# Altium footprint library NG_Mechanical.PcbLib: 18 footprints (part 2 of 2)
Each footprint in its own frame and in the unit in brackets; x right, y up, seen from the top. Pads: shape width x height; smd on the part's side, far side on the other; paste and mask are expansions set on the pad; w line width, h text height; cw(c..) or ccw(c..) is an arc to the next point about the centre after c.
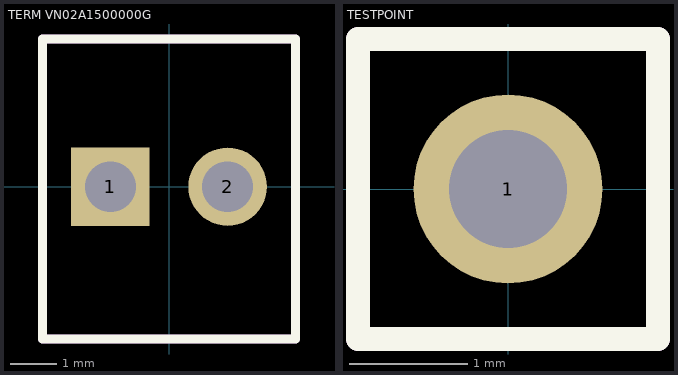
[diagram p1: the footprints below, top view; thin cyan lines are the x and y axes]

## TERM VN02A1500000G [mm] "Terminal block, P=2.54mm"
height 8.5
pads (2):
  rect 1.7x1.7 hole 1.1 mask+0.05: 1(-1.27,0)
  round 1.7 hole 1.1 mask+0.05: 2(1.27,0)
Top Overlay:
  lines w0.2: -2.74,-3.3 -2.74,3.2 2.74,3.2 2.74,-3.3 -2.74,-3.3
Mechanical 4:
  text ".Designator" at -3.999,-0.267 h0.8
Top Component Center:
  lines w0.1: -1.47,0 -1.07,0 ; -1.27,-0.2 -1.27,0.2
Top Component Outline:
  lines w0.2: -2.74,-3.3 -2.74,3.2 2.74,3.2 2.74,-3.3 -2.74,-3.3
Top Assembly:
  lines w0.2: -2.74,-3.3 -2.74,3.2 2.74,3.2 2.74,-3.3 -2.74,-3.3
  text ".Comment" at -3.639,-0.508 h1.02
3D body "VN02A1500000G.stp": height 8.55, standoff -3.45, extent -2.74,-3.3 2.74,3.2

## TESTPOINT [mm] "Generic description"
height 0.8
pads (1):
  round 1.6 hole 1 mask+0.05: 1(0,0)
Top Overlay:
  lines w0.2: -1.27,-1.27 -1.27,1.27 1.27,1.27 1.27,-1.27 -1.27,-1.27
Mechanical 4:
  text ".Designator" at 0.15,0.417 h0.8
Top Component Center:
  lines w0.1: -0.2,0 0.2,0 ; 0,-0.2 0,0.2
Top Component Outline:
  lines w0.2: -1.27,-1.27 -1.27,1.27 1.27,1.27 1.27,-1.27 -1.27,-1.27
3D body "5001.stp": height 4.89, standoff -2.73, extent -1.261,-1.27 1.261,1.27